# EAGLE library part TLC5940 (library tlc5940)
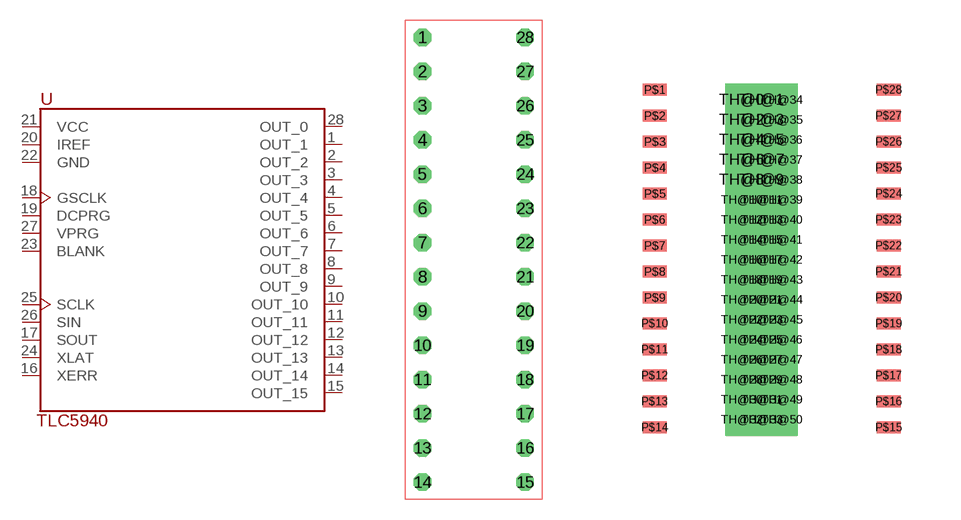
[diagram p0: symbol with the pads of DIP-28; footprints DIP-28, PWP-28]

Designator prefix -

## TLC5940NT  [DIP-28]
1  OUT_1  out
2  OUT_2  out
3  OUT_3  out
4  OUT_4  out
5  OUT_5  out
6  OUT_6  out
7  OUT_7  out
8  OUT_8  out
9  OUT_9  out
10  OUT_10  out
11  OUT_11  out
12  OUT_12  out
13  OUT_13  out
14  OUT_14  out
15  OUT_15  out
16  XERR  out
17  SOUT  out
18  GSCLK  in
19  DCPRG  in
20  IREF  pwr
21  VCC  pwr
22  GND  pwr
23  BLANK  in
24  XLAT  in
25  SCLK  in
26  SIN  in
27  VPRG  in
28  OUT_0  out

## TLC5940PWP  [PWP-28]
P$1  GND  pwr
P$2  BLANK  in
P$3  XLAT  in
P$4  SCLK  in
P$5  SIN  in
P$6  VPRG  in
P$7  OUT_0  out
P$8  OUT_1  out
P$9  OUT_2  out
P$10  OUT_3  out
P$11  OUT_4  out
P$12  OUT_5  out
P$13  OUT_6  out
P$14  OUT_7  out
P$15  OUT_8  out
P$16  OUT_9  out
P$17  OUT_10  out
P$18  OUT_11  out
P$19  OUT_12  out
P$20  OUT_13  out
P$21  OUT_14  out
P$22  OUT_15  out
P$23  XERR  out
P$24  SOUT  out
P$25  GSCLK  in
P$26  DCPRG  in
P$27  IREF  pwr
P$28  VCC  pwr

## Footprint DIP-28 (pad centres in mm)
drill 0.8 octagon: 1 -3.81,-1.27; 2 -3.81,-3.81; 3 -3.81,-6.35; 4 -3.81,-8.89; 5 -3.81,-11.43; 6 -3.81,-13.97; 7 -3.81,-16.51; 8 -3.81,-19.05; 9 -3.81,-21.59; 10 -3.81,-24.13; 11 -3.81,-26.67; 12 -3.81,-29.21; 13 -3.81,-31.75; 14 -3.81,-34.29; 15 3.81,-34.29; 16 3.81,-31.75; 17 3.81,-29.21; 18 3.81,-26.67; 19 3.81,-24.13; 20 3.81,-21.59; 21 3.81,-19.05; 22 3.81,-16.51; 23 3.81,-13.97; 24 3.81,-11.43; 25 3.81,-8.89; 26 3.81,-6.35; 27 3.81,-3.81; 28 3.81,-1.27

## Footprint PWP-28 (pad centres in mm)
smd 0.61 x 0.305: P$1 -2.65,5.1; P$2 -2.65,4.45; P$3 -2.65,3.8; P$4 -2.65,3.15; P$5 -2.65,2.5; P$6 -2.65,1.85; P$7 -2.65,1.2; P$8 -2.65,0.55; P$9 -2.65,-0.1; P$10 -2.65,-0.75; P$11 -2.65,-1.4; P$12 -2.65,-2.05; P$13 -2.65,-2.7; P$14 -2.65,-3.35; P$15 3.2,-3.35; P$16 3.2,-2.7; P$17 3.2,-2.05; P$18 3.2,-1.4; P$19 3.2,-0.75; P$20 3.2,-0.1; P$21 3.2,0.55; P$22 3.2,1.2; P$23 3.2,1.85; P$24 3.2,2.5; P$25 3.2,3.15; P$26 3.2,3.8; P$27 3.2,4.45; P$28 3.2,5.1
drill 0.305 pad 0.5 square: TH@0 -0.48,4.85; TH@1 0.02,4.85; TH@2 -0.48,4.35; TH@3 0.02,4.35; TH@4 -0.48,3.85; TH@5 0.02,3.85; TH@6 -0.48,3.35; TH@7 0.02,3.35; TH@8 -0.48,2.85; TH@9 0.02,2.85; TH@10 -0.48,2.35; TH@11 0.02,2.35; TH@12 -0.48,1.85; TH@13 0.02,1.85; TH@14 -0.48,1.35; TH@15 0.02,1.35; TH@16 -0.48,0.85; TH@17 0.02,0.85; TH@18 -0.48,0.35; TH@19 0.02,0.35; TH@20 -0.48,-0.15; TH@21 0.02,-0.15; TH@22 -0.48,-0.65; TH@23 0.02,-0.65; TH@24 -0.48,-1.15; TH@25 0.02,-1.15; TH@26 -0.48,-1.65; TH@27 0.02,-1.65; TH@28 -0.48,-2.15; TH@29 0.02,-2.15; TH@30 -0.48,-2.65; TH@31 0.02,-2.65; TH@32 -0.48,-3.15; TH@33 0.02,-3.15; TH@34 0.52,4.85; TH@35 0.52,4.35; TH@36 0.52,3.85; TH@37 0.52,3.35; TH@38 0.52,2.85; TH@39 0.52,2.35; TH@40 0.52,1.85; TH@41 0.52,1.35; TH@42 0.52,0.85; TH@43 0.52,0.35; TH@44 0.52,-0.15; TH@45 0.52,-0.65; TH@46 0.52,-1.15; TH@47 0.52,-1.65; TH@48 0.52,-2.15; TH@49 0.52,-2.65; TH@50 0.52,-3.15